# EAGLE library part AUDIO-8P (library connector)
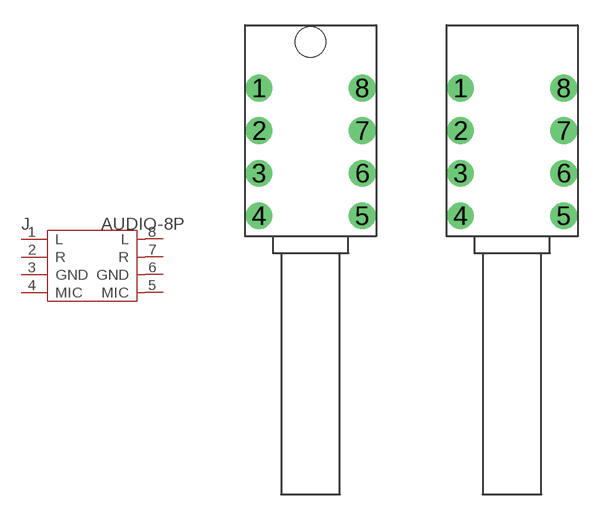
[diagram p29: symbol with the pads of 8P-2.54-12.6X7.8; footprints 8P-2.54-12.6X7.8, 8P-2.54-12.6X7.8-W/O-HOLE]

Designator prefix J

## AUDIO-8P  [8P-2.54-12.6X7.8]
1  L
2  R
3  GND
4  MIC
5  MIC
6  GND
7  R
8  L

## AUDIO-8P'W/O-HOLE'  [8P-2.54-12.6X7.8-W/O-HOLE]
Pads as for 8P-2.54-12.6X7.8

## Footprint 8P-2.54-12.6X7.8 (pad centres in mm)
drill 0.96 pad 1.6: 1 -3.075,2.54; 2 -3.075,0; 3 -3.075,-2.54; 4 -3.075,-5.08; 5 3.075,-5.08; 6 3.075,-2.54; 7 3.075,0; 8 3.075,2.54
hole 1.8 at 0,5.3

## Footprint 8P-2.54-12.6X7.8-W/O-HOLE (pad centres in mm)
drill 0.96 pad 1.6: 1 -3.075,2.54; 2 -3.075,0; 3 -3.075,-2.54; 4 -3.075,-5.08; 5 3.075,-5.08; 6 3.075,-2.54; 7 3.075,0; 8 3.075,2.54